# Altium footprint library Miscellaneous Devices.PcbLib: 179 footprints (part 12 of 12)
Each footprint in its own frame and in the unit in brackets; x right, y up, seen from the top. Pads: shape width x height; smd on the part's side, far side on the other; paste and mask are expansions set on the pad; w line width, h text height; cw(c..) or ccw(c..) is an arc to the next point about the centre after c.
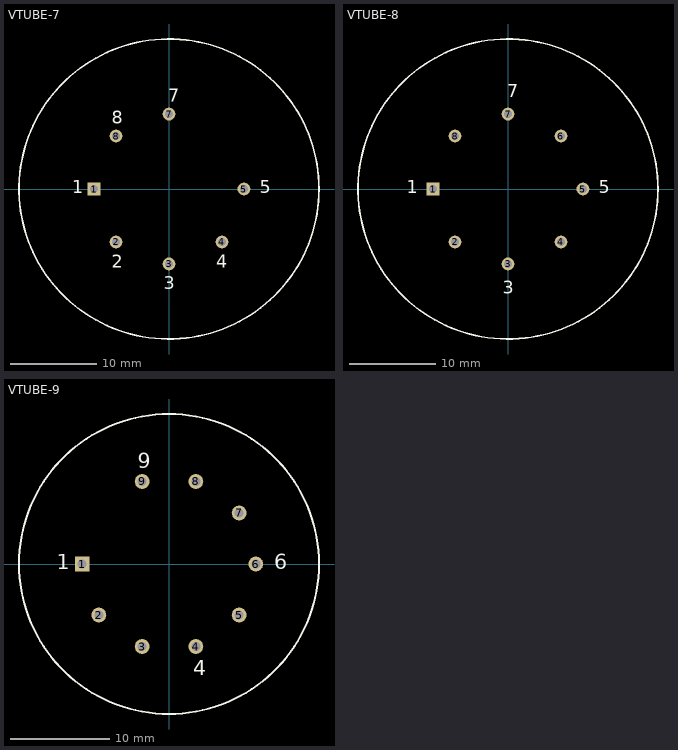
[diagram p11: the footprints below, top view; thin cyan lines are the x and y axes]

## VTUBE-7 [mm] "Vacuum Tube; 7 Leads"
height 108
pads (7):
  rect 1.5x1.5 hole 0.9: 1(-8.725,0)
  round 1.5 hole 0.9: 2(-6.17,-6.17) 3(0,-8.725) 4(6.17,-6.17) 5(8.725,0) 7(0,8.725) 8(-6.17,6.17)
Top Overlay:
  circle w0.2: c0,0 r17.462
  text "8" at -6.693,7.62 h1.5
  text "7" at -0.089,10.16 h1.5
  text "5" at 10.579,-0.508 h1.5
  text "4" at 5.499,-9.144 h1.5
  text "3" at -0.597,-11.684 h1.5
  text "2" at -6.693,-9.144 h1.5
  text "1" at -11.265,-0.508 h1.5

## VTUBE-8 [mm] "Vacuum Tube; 8 Leads"
height 108
pads (8):
  rect 1.5x1.5 hole 0.9: 1(-8.725,0)
  round 1.5 hole 0.9: 2(-6.17,-6.17) 3(0,-8.725) 4(6.17,-6.17) 5(8.725,0) 6(6.17,6.17) 7(0,8.725) 8(-6.17,6.17)
Top Overlay:
  circle w0.2: c0,0 r17.462
  text "1" at -11.773,-0.508 h1.5
  text "3" at -0.597,-12.192 h1.5
  text "5" at 10.579,-0.508 h1.5
  text "7" at -0.089,10.668 h1.5

## VTUBE-9 [mm] "Vacuum Tube; 9 Leads"
height 66.7
pads (9):
  rect 1.5x1.5 hole 0.9: 1(-8.725,0)
  round 1.5 hole 0.9: 2(-7.059,-5.128) 3(-2.696,-8.298) 4(2.696,-8.298) 5(7.059,-5.128) 6(8.725,0) 7(7.059,5.128) 8(2.696,8.298) 9(-2.696,8.298)
Top Overlay:
  circle w0.2: c0,0 r15.081
  text "1" at -11.265,-0.508 h1.5
  text "9" at -3.137,9.652 h1.5
  text "6" at 10.579,-0.508 h1.5
  text "4" at 2.451,-11.176 h1.5